# EAGLE library part 621X14242921 (library Board-to-Board (rev18a))
WR-PHD 2.00mm Dual SMT Socket Header, 14 Pins=>Code : Con_BTB_SHD_2.00_2_621x14242921(Packaging:x = 0: Tube x = 3: Tape & Reel with Cap; 600 pcs/Reel) <http://katalog.we-online.de/media/images/v2/Family_Dual_Socket_Header_WR-PHD_6130xx242921.jpg> 6210xx242921 Details see: http://katalog.we-online.de/en/em/PHD_2_00_SMT_DUAL_SOCKET_HEADER_6210XX242921 6213xx242921 Details see: http://katalog.we-online.de/en/em/PHD_2_00_SMT_DUAL_SOCKET_HEADER_REEL_6213XX242921 2014 (C) Würth Elektronik
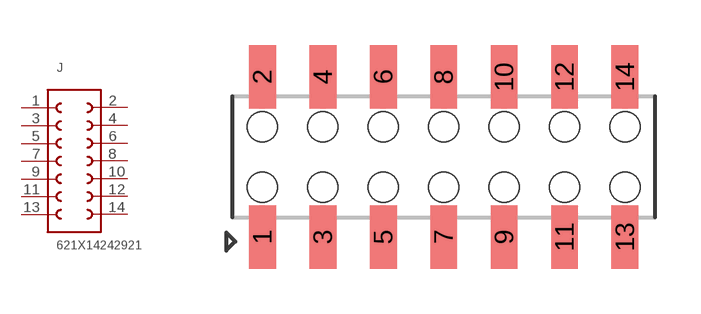
[diagram p258: symbol with the pads of 621X14242921; footprint 621X14242921]

Designator prefix J

## 621X14242921  [621X14242921]
1  1  pas
2  14  pas
3  2  pas
4  13  pas
5  3  pas
6  12  pas
7  4  pas
8  11  pas
9  5  pas
10  10  pas
11  6  pas
12  9  pas
13  7  pas
14  8  pas

## Footprint 621X14242921 (pad centres in mm)
WR-PHD 2.00mm Dual SMT Socket Header, 14 Pins
smd 0.89 x 2.1: 1 -6,-2.65; 2 -6,2.65; 3 -4,-2.65; 4 -4,2.65; 5 -2,-2.65; 6 -2,2.65; 7 0,-2.65; 8 0,2.65; 9 2,-2.65; 10 2,2.65; 11 4,-2.65; 12 4,2.65; 13 6,-2.65; 14 6,2.65
hole 1 at -6,1
hole 1 at -4,1
hole 1 at -4,-1
hole 1 at -6,-1
hole 1 at -2,1
hole 1 at -2,-1
hole 1 at 0,-1
hole 1 at 0,1
hole 1 at 2,1
hole 1 at 2,-1
hole 1 at 4,-1
hole 1 at 6,-1
hole 1 at 6,1
hole 1 at 4,1